# EAGLE library part 62A22-02-P (library 62A22-02-P)
Rotary Encoder Optical 16 Quadrature (Incremental) User Selectable Source: Datasheet <https://app-grayhill-website-cms-prod-001.azurewebsites.net/media/sidlewfq/62a-d-v-datasheet.pdf>
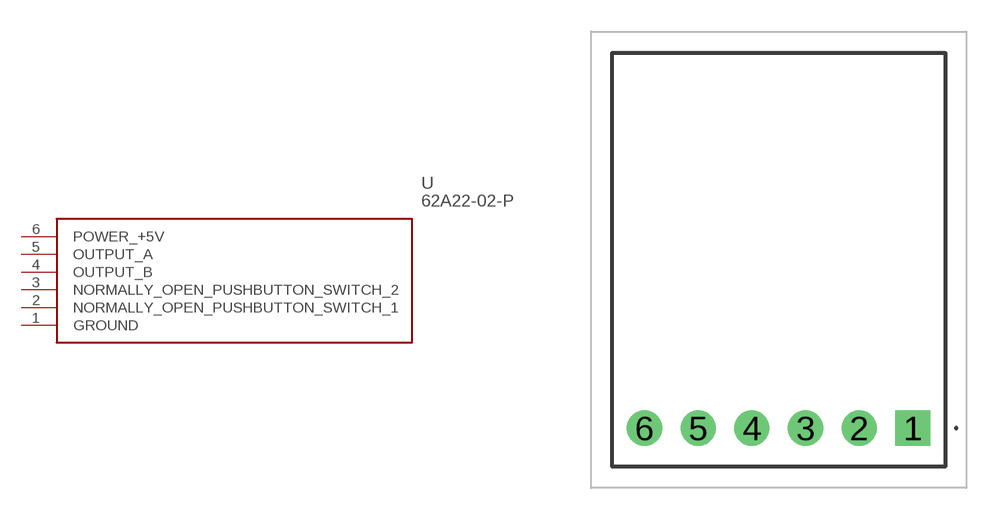
[diagram p0: symbol with the pads of 62A2202P; footprint 62A2202P]

Designator prefix U

## 62A22-02-P (Arrow_Part_Number: 62A22-02-P; Arrow_Price-Stock: https://www.arrow.com/en/products/62a22-02-p/grayhill?region=nac; Description: Rotary Encoder Optical 16 Quadrature (Incremental) User Selectable; Height: 38.78mm; Manufacturer_Name: Grayhill; Manufacturer_Part_Number: 62A22-02-P; Mouser_Part_Number: 706-62A22-02-P; Mouser_Price-Stock: https://www.mouser.co.uk/ProductDetail/Grayhill/62A22-02-P?qs=ls7QRyWmRk6o89xMir9opA%3D%3D)  [62A2202P]
1  GROUND
2  NORMALLY_OPEN_PUSHBUTTON_SWITCH_1
3  NORMALLY_OPEN_PUSHBUTTON_SWITCH_2
4  OUTPUT_B
5  OUTPUT_A
6  POWER_+5V

## Footprint 62A2202P (pad centres in mm)
62A22-02-P-6
drill 1.11 pad 1.665 square: 1 0,0
drill 1.11 pad 1.665: 2 -2.54,0; 3 -5.08,0; 4 -7.62,0; 5 -10.16,0; 6 -12.7,0